# Altium schematic symbol library Communication_Interfaces_RS485_GOST.SchLib: 2 symbols
Pins are listed as number, name and electrical type; pins without a type are passive.

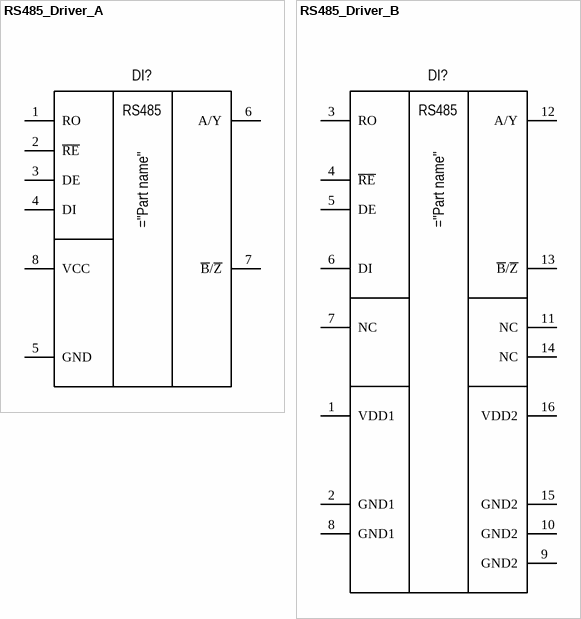
[diagram p0: symbols RS485_Driver_A to RS485_Driver_B]

## RS485_Driver_A
designator DI?
pins: 1 RO, 2 ~{RE}, 3 DE, 4 DI, 5 GND, 6 A/Y, 7 ~{B}/~{Z}, 8 VCC
text: RS485

## RS485_Driver_B
designator DI?
pins: 1 VDD1, 2 GND1, 3 RO, 4 ~{RE}, 5 DE, 6 DI, 7 NC, 8 GND1, 9 GND2, 10 GND2, 11 NC, 12 A/Y, 13 ~{B}/~{Z}, 14 NC, 15 GND2, 16 VDD2
text: RS485